# Altium schematic symbol library MIC5365-1.8YD5-TR.SchLib: 1 symbol
Pins are listed as number, name and electrical type; pins without a type are passive.

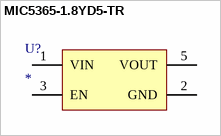
[diagram p0: symbol MIC5365-1.8YD5-TR]

## MIC5365-1.8YD5-TR
designator U?
Value: *
pins: 1 VIN, 2 GND, 3 EN, 5 VOUT